# EAGLE library part TMS4116 (library TMS99)
TMS4116 DRAM
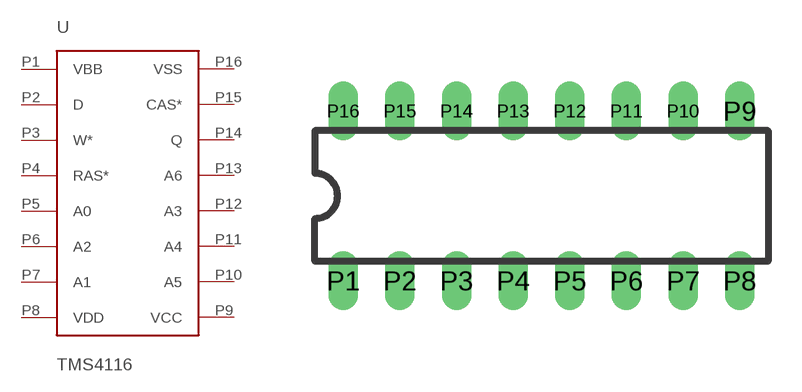
[diagram p0: symbol with the pads of DIP16; footprint DIP16]

Designator prefix U

## TMS4116  [DIP16]
P1  VBB
P2  D
P3  W*
P4  RAS*
P5  A0
P6  A2
P7  A1
P8  VDD
P9  VCC
P10  A5
P11  A4
P12  A3
P13  A6
P14  Q
P15  CAS*
P16  VSS

## Footprint DIP16 (pad centres in mm)
Dual In Line Package
drill 0.813 long: P1 -8.89,-3.81; P2 -6.35,-3.81; P3 -3.81,-3.81; P4 -1.27,-3.81; P5 1.27,-3.81; P6 3.81,-3.81; P7 6.35,-3.81; P8 8.89,-3.81; P9 8.89,3.81; P10 6.35,3.81; P11 3.81,3.81; P12 1.27,3.81; P13 -1.27,3.81; P14 -3.81,3.81; P15 -6.35,3.81; P16 -8.89,3.81